# Altium schematic symbol library SCF19XV-300-1R9A003JV.SchLib: 1 symbol
Pins are listed as number, name and electrical type; pins without a type are passive.

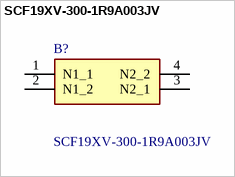
[diagram p0: symbol SCF19XV-300-1R9A003JV]

## SCF19XV-300-1R9A003JV
designator B?
KEMET, SCF-XV, AC Line Filters, Common Mode, 0.11 mH; Geometry.Height: 27.5mm; Mouser Part Number: 80-SCF19XV3001R903JV; Mouser Price/Stock: https://www.mouser.co.uk/ProductDetail/KEMET/SCF19XV-300-1R9A003JV?qs=MyNHzdoqoQJ8dcdKI%2FcPyQ%3D%3D; Manufacturer_Name: KEMET; Manufacturer_Part_Number: SCF19XV-300-1R9A003JV; Datasheet Link: https://connect.kemet.com:7667/gateway/IntelliData-ComponentDocumentation/1.0/download/datasheet/SCF19XV-300-1R9A003JV.pdf
footprint SCF19XV3001R9A003JV
pins: 1 N1_1, 2 N1_2, 3 N2_1, 4 N2_2